# Altium schematic symbol library AWR1843Antenna.SchLib: 1 symbol
Pins are listed as number, name and electrical type; pins without a type are passive.

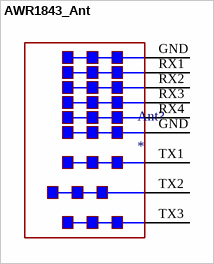
[diagram p0: symbol AWR1843_Ant]

## AWR1843_Ant
designator Ant?
AWR1843 Antenna reference
footprint AWR1843_Antenna (AWR1843 reference Antenna)
pins: GND, GND, RX1, RX2, RX3, RX4, TX1, TX2, TX3